# Altium integrated library PHOENIX 3 .IntLib: 1 symbol
Pins are listed as number, name and electrical type; pins without a type are passive.

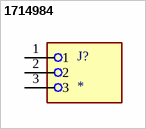
[diagram p0: symbol 1714984]

## 1714984
designator J?
PCB Terminal Screw 9.52mm 10AWG 1000V 32A 3 Position COMBICON MKDS Series | Phoenix Contact 1714984; SnapEDA_Link: https://www.snapeda.com/parts/1714984/Phoenix+Contact/view-part/?ref=snap; Package: None; Value: *; MF: Phoenix Contact; MP: 1714984; Check_prices: https://www.snapeda.com/parts/1714984/Phoenix+Contact/view-part/?ref=eda
footprint PHOENIX_1714984
pins: 1, 2, 3